# Altium footprint library TS3USB3031RMGR.PcbLib: 1 footprints
Each footprint in its own frame and in the unit in brackets; x right, y up, seen from the top. Pads: shape width x height; smd on the part's side, far side on the other; paste and mask are expansions set on the pad; w line width, h text height; cw(c..) or ccw(c..) is an arc to the next point about the centre after c.
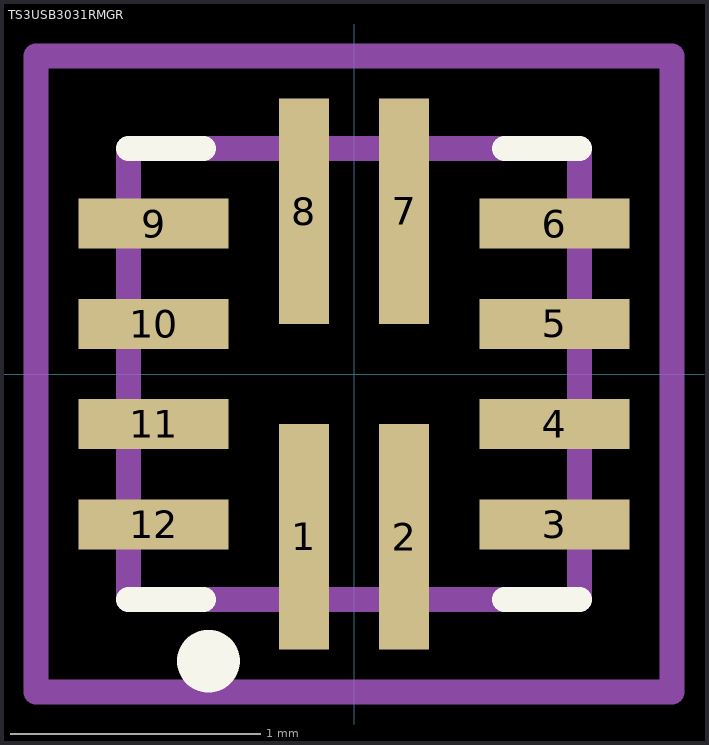
[diagram p0: the footprint, top view; thin cyan lines are the x and y axes]

## TS3USB3031RMGR [mm]
pads (12):
  rect 0.2x0.9 smd mask+0.05: 1(-0.2,-0.65) 2(0.2,-0.65) 7(0.2,0.65) 8(-0.2,0.65)
  rect 0.6x0.2 smd mask+0.05: 3(0.8,-0.6) 4(0.8,-0.2) 5(0.8,0.2) 6(0.8,0.6) 9(-0.8,0.6) 10(-0.8,0.2) 11(-0.8,-0.2) 12(-0.8,-0.6)
Top Overlay:
  lines w0.1: -0.9,-0.9 -0.6,-0.9 ; -0.9,0.9 -0.6,0.9 ; 0.6,-0.9 0.9,-0.9 ; 0.6,0.9 0.9,0.9
  lines w0.2: -0.606,-1.146 ccw(c-0.581,-1.146) -0.556,-1.146 ccw(c-0.581,-1.146) -0.606,-1.146
Top 3D Body:
  lines w0.1: -0.9,-0.9 -0.9,0.9 0.9,0.9 0.9,-0.9 -0.9,-0.9
Top Courtyard:
  lines w0.1: -1.27,-1.27 -1.27,1.27 1.27,1.27 1.27,-1.27 -1.27,-1.27
3D body "TS3USB3031RMGR.stp": height 0.8, standoff 0, extent -0.9,-0.9 0.9,0.9